# Altium integrated library JS202011JAQN.IntLib: 1 symbol
Pins are listed as number, name and electrical type; pins without a type are passive.

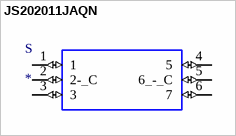
[diagram p0: symbol JS202011JAQN]

## JS202011JAQN
designator S
Slide Switch DPDT Surface Mount, Right Angle; MP: JS202011JAQN; MF: C&K; SnapEDA_Link: https://www.snapeda.com/parts/JS202011JAQN/C&K/view-part/564121/?ref=snap; Availability: Unavailable; Package: None; Price: None; Value: *
footprint JS202011JAQN
pins: 1 (io), 2 2-_C (io), 3 (io), 4 5 (io), 5 6_-_C (io), 6 7 (io)